# Altium schematic symbol library KB-SC410XDH.SchLib: 1 symbol
Pins are listed as number, name and electrical type; pins without a type are passive.

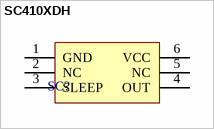
[diagram p0: symbol SC410XDH]

## SC410XDH
designator SC?
pins: 1 GND, 2 NC, 3 SLEEP, 4 OUT, 5 NC, 6 VCC